# Altium schematic symbol library Elements.SchLib: 19 symbols
Pins are listed as number, name and electrical type; pins without a type are passive.

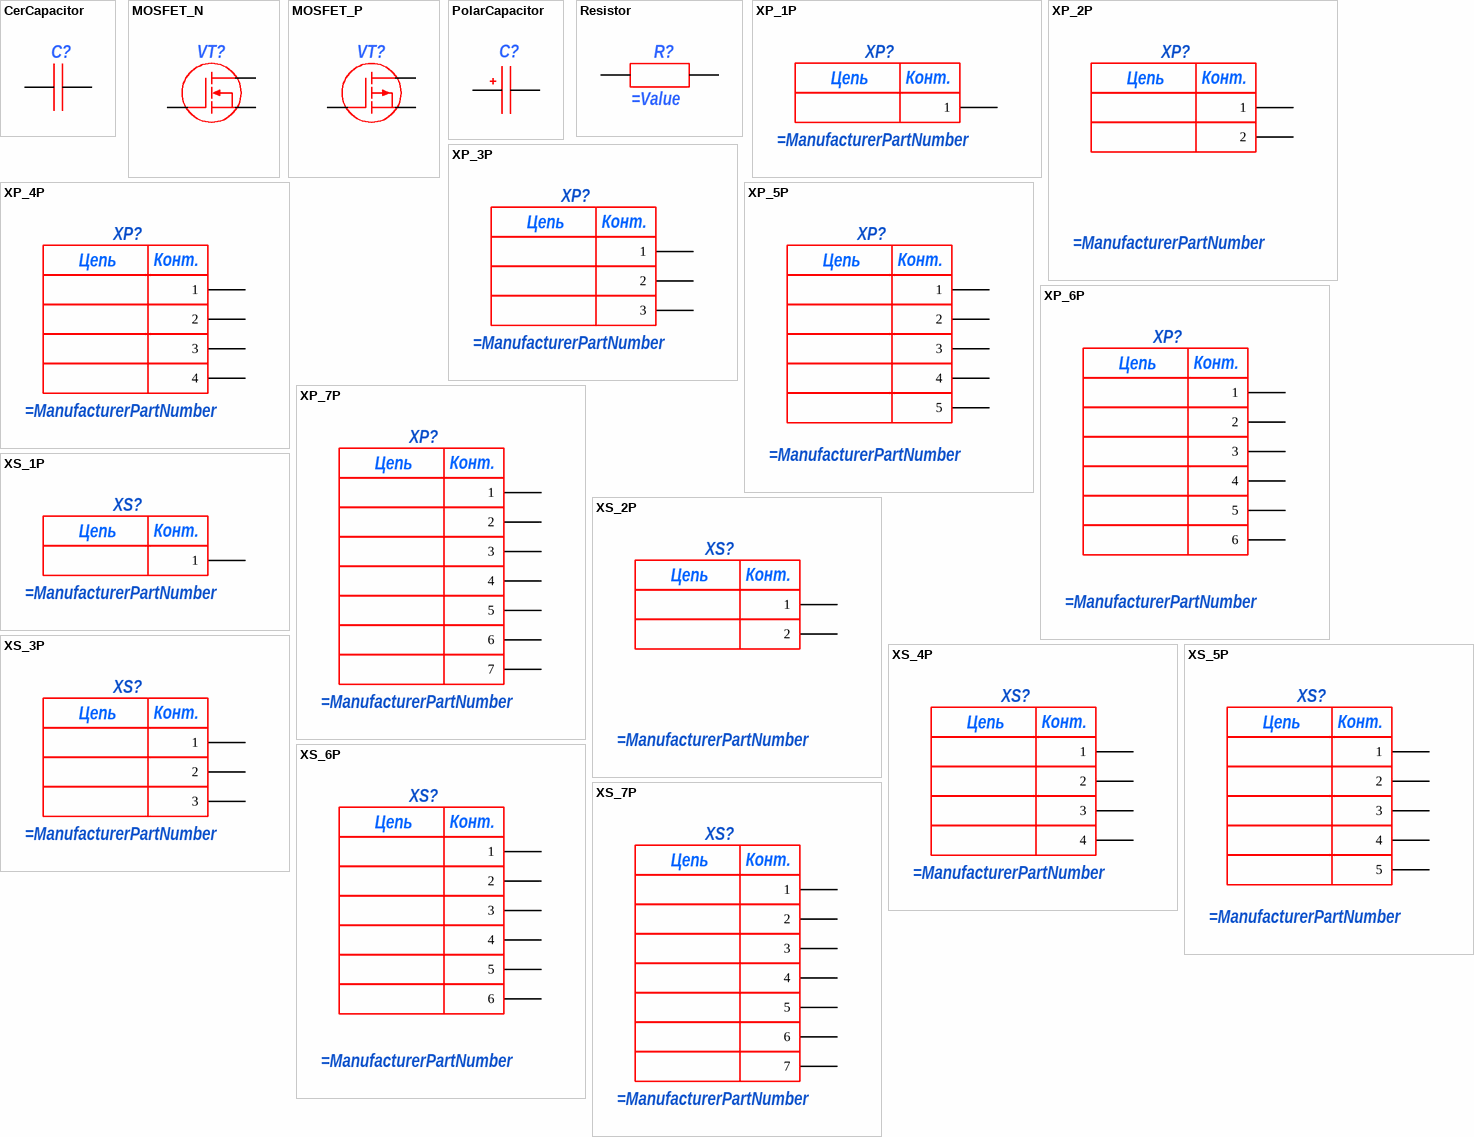
[diagram p0: symbols CerCapacitor to XS_7P]

## CerCapacitor
designator C?
Неполярный конденсатор
pins: 1, 2

## MOSFET_N
designator VT?
pins: 1 G, 2 D, 3 S

## MOSFET_P
designator VT?
pins: 1 G, 2 D, 3 S

## PolarCapacitor
designator C?  (value not drawn)
Полярный конденсатор
pins: 1 (power), 2 (power)

## Resistor
designator R?
Резистор
pins: 1, 2

## XP_1P
designator XP?
pins: 1
text: Цепь; Конт.

## XP_2P
designator XP?
pins: 1, 2
text: Цепь; Конт.

## XP_3P
designator XP?
pins: 1, 2, 3
text: Цепь; Конт.

## XP_4P
designator XP?
pins: 1, 2, 3, 4
text: Цепь; Конт.

## XP_5P
designator XP?
pins: 1, 2, 3, 4, 5
text: Цепь; Конт.

## XP_6P
designator XP?
pins: 1, 2, 3, 4, 5, 6
text: Цепь; Конт.

## XP_7P
designator XP?
pins: 1, 2, 3, 4, 5, 6, 7
text: Цепь; Конт.

## XS_1P
designator XS?
pins: 1
text: Цепь; Конт.

## XS_2P
designator XS?
pins: 1, 2
text: Цепь; Конт.

## XS_3P
designator XS?
pins: 1, 2, 3
text: Цепь; Конт.

## XS_4P
designator XS?
pins: 1, 2, 3, 4
text: Цепь; Конт.

## XS_5P
designator XS?
pins: 1, 2, 3, 4, 5
text: Цепь; Конт.

## XS_6P
designator XS?
pins: 1, 2, 3, 4, 5, 6
text: Цепь; Конт.

## XS_7P
designator XS?
pins: 1, 2, 3, 4, 5, 6, 7
text: Цепь; Конт.